# EAGLE library part SIM900 (library hosho)
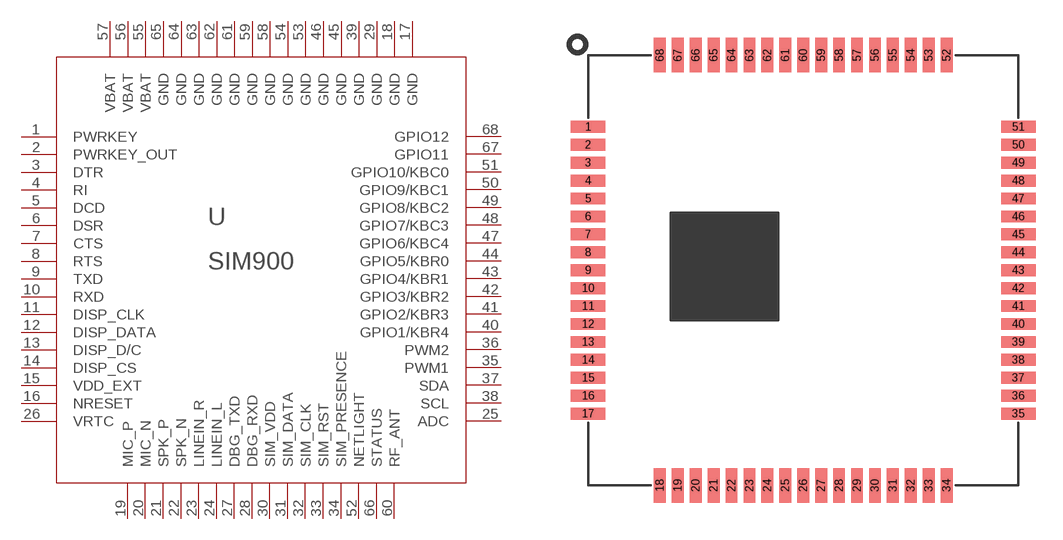
[diagram p8: symbol with the pads of SIM900; footprint SIM900]

Designator prefix U

## SIM900  [SIM900]
1  PWRKEY  in
2  PWRKEY_OUT  out
3  DTR  in
4  RI  out
5  DCD  out
6  DSR  out
7  CTS  out
8  RTS  in
9  TXD  out
10  RXD  in
11  DISP_CLK  out
12  DISP_DATA
13  DISP_D/C  out
14  DISP_CS  out
15  VDD_EXT  out
16  NRESET  in
17  GND  pwr
18  GND  pwr
19  MIC_P  in
20  MIC_N  in
21  SPK_P  out
22  SPK_N  out
23  LINEIN_R  in
24  LINEIN_L  in
25  ADC  in
26  VRTC
27  DBG_TXD  out
28  DBG_RXD  in
29  GND  pwr
30  SIM_VDD  out
31  SIM_DATA
32  SIM_CLK  out
33  SIM_RST  out
34  SIM_PRESENCE  in
35  PWM1  out
36  PWM2  out
37  SDA
38  SCL  out
39  GND  pwr
40  GPIO1/KBR4  out
41  GPIO2/KBR3  out
42  GPIO3/KBR2  out
43  GPIO4/KBR1  out
44  GPIO5/KBR0  out
45  GND  pwr
46  GND  pwr
47  GPIO6/KBC4  in
48  GPIO7/KBC3
49  GPIO8/KBC2  in
50  GPIO9/KBC1  in
51  GPIO10/KBC0
52  NETLIGHT  out
53  GND  pwr
54  GND  pwr
55  VBAT  pwr
56  VBAT  pwr
57  VBAT  pwr
58  GND  pwr
59  GND  pwr
60  RF_ANT
61  GND  pwr
62  GND  pwr
63  GND  pwr
64  GND  pwr
65  GND  pwr
66  STATUS  out
67  GPIO11
68  GPIO12

## Footprint SIM900 (pad centres in mm)
smd 1.93 x 0.66: 1 -12,8; 2 -12,7; 3 -12,6; 4 -12,5; 5 -12,4; 6 -12,3; 7 -12,2; 8 -12,1; 9 -12,0; 10 -12,-1; 11 -12,-2; 12 -12,-3; 13 -12,-4; 14 -12,-5; 15 -12,-6; 16 -12,-7; 17 -12,-8; 35 12,-8; 36 12,-7; 37 12,-6; 38 12,-5; 39 12,-4; 40 12,-3; 41 12,-2; 42 12,-1; 43 12,0; 44 12,1; 45 12,2; 46 12,3; 47 12,4; 48 12,5; 49 12,6; 50 12,7; 51 12,8
smd 0.66 x 1.93: 18 -8,-12; 19 -7,-12; 20 -6,-12; 21 -5,-12; 22 -4,-12; 23 -3,-12; 24 -2,-12; 25 -1,-12; 26 0,-12; 27 1,-12; 28 2,-12; 29 3,-12; 30 4,-12; 31 5,-12; 32 6,-12; 33 7,-12; 34 8,-12; 52 8,12; 53 7,12; 54 6,12; 55 5,12; 56 4,12; 57 3,12; 58 2,12; 59 1,12; 60 0,12; 61 -1,12; 62 -2,12; 63 -3,12; 64 -4,12; 65 -5,12; 66 -6,12; 67 -7,12; 68 -8,12